# EAGLE library part ATSAM3A8C (library teensylu)
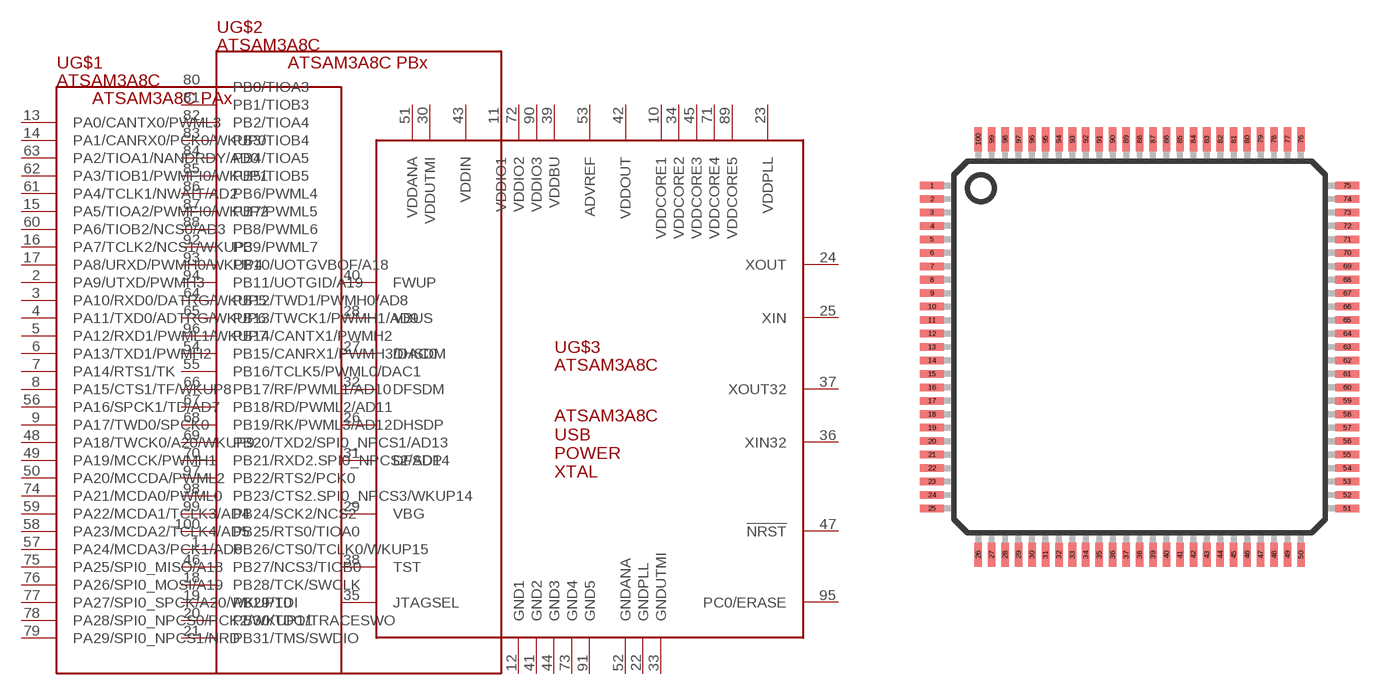
[diagram p9: symbol with the pads of LQFP100; footprint LQFP100]

Designator prefix U; gates G$1=ATSAM3A8C-PA G$2=ATSAM3A8C-PB G$3=ATSAM3A8C-POWER

## ATSAM3A8C-LQFP100 (MANUFACTURER: Atmel; MANUFACTURER_PART_NUMBER: ATSAM3A8C)  [LQFP100]
1  G$2:PB26/CTS0/TCLK0/WKUP15
2  G$1:PA9/UTXD/PWMH3
3  G$1:PA10/RXD0/DATRG/WKUP5
4  G$1:PA11/TXD0/ADTRG/WKUP6
5  G$1:PA12/RXD1/PWML1/WKUP7
6  G$1:PA13/TXD1/PWMH2
7  G$1:PA14/RTS1/TK
8  G$1:PA15/CTS1/TF/WKUP8
9  G$1:PA17/TWD0/SPCK0
10  G$3:VDDCORE1  in
11  G$3:VDDIO1  pwr
12  G$3:GND1  pwr
13  G$1:PA0/CANTX0/PWML3
14  G$1:PA1/CANRX0/PCK0/WKUP0
15  G$1:PA5/TIOA2/PWMFI0/WKUP2
16  G$1:PA7/TCLK2/NCS1/WKUP3
17  G$1:PA8/URXD/PWMH0/WKUP4
18  G$2:PB28/TCK/SWCLK
19  G$2:PB29/TDI
20  G$2:PB30/TDO/TRACESWO
21  G$2:PB31/TMS/SWDIO
22  G$3:GNDPLL  pwr
23  G$3:VDDPLL  in
24  G$3:XOUT  out
25  G$3:XIN  in
26  G$3:DHSDP
27  G$3:DHSDM
28  G$3:VBUS  pwr
29  G$3:VBG  pas
30  G$3:VDDUTMI  in
31  G$3:DFSDP  in
32  G$3:DFSDM  in
33  G$3:GNDUTMI  pwr
34  G$3:VDDCORE2  in
35  G$3:JTAGSEL  in
36  G$3:XIN32  out
37  G$3:XOUT32  out
38  G$3:TST  in
39  G$3:VDDBU  pwr
40  G$3:FWUP  in
41  G$3:GND2  pwr
42  G$3:VDDOUT  out
43  G$3:VDDIN  pwr
44  G$3:GND3  pwr
45  G$3:VDDCORE3  in
46  G$2:PB27/NCS3/TIOB0
47  G$3:!NRST
48  G$1:PA18/TWCK0/A20/WKUP9
49  G$1:PA19/MCCK/PWMH1
50  G$1:PA20/MCCDA/PWML2
51  G$3:VDDANA  pwr
52  G$3:GNDANA  pwr
53  G$3:ADVREF  pwr
54  G$2:PB15/CANRX1/PWMH3/DAC0
55  G$2:PB16/TCLK5/PWML0/DAC1
56  G$1:PA16/SPCK1/TD/AD7
57  G$1:PA24/MCDA3/PCK1/AD6
58  G$1:PA23/MCDA2/TCLK4/AD5
59  G$1:PA22/MCDA1/TCLK3/AD4
60  G$1:PA6/TIOB2/NCS0/AD3
61  G$1:PA4/TCLK1/NWAIT/AD2
62  G$1:PA3/TIOB1/PWMFI0/WKUP1
63  G$1:PA2/TIOA1/NANDRDY/AD0
64  G$2:PB12/TWD1/PWMH0/AD8
65  G$2:PB13/TWCK1/PWMH1/AD9
66  G$2:PB17/RF/PWML1/AD10
67  G$2:PB18/RD/PWML2/AD11
68  G$2:PB19/RK/PWML3/AD12
69  G$2:PB20/TXD2/SPI0_NPCS1/AD13
70  G$2:PB21/RXD2.SPI0_NPCS2/AD14
71  G$3:VDDCORE4  in
72  G$3:VDDIO2  pwr
73  G$3:GND4  pwr
74  G$1:PA21/MCDA0/PWML0
75  G$1:PA25/SPI0_MISO/A18
76  G$1:PA26/SPI0_MOSI/A19
77  G$1:PA27/SPI0_SPCK/A20/WKUP10
78  G$1:PA28/SPI0_NPCS0/PCK2/WKUP11
79  G$1:PA29/SPI0_NPCS1/NRD
80  G$2:PB0/TIOA3
81  G$2:PB1/TIOB3
82  G$2:PB2/TIOA4
83  G$2:PB3/TIOB4
84  G$2:PB4/TIOA5
85  G$2:PB5/TIOB5
86  G$2:PB6/PWML4
87  G$2:PB7/PWML5
88  G$2:PB8/PWML6
89  G$3:VDDCORE5  in
90  G$3:VDDIO3  pwr
91  G$3:GND5  pwr
92  G$2:PB9/PWML7
93  G$2:PB10/UOTGVBOF/A18
94  G$2:PB11/UOTGID/A19
95  G$3:PC0/ERASE
96  G$2:PB14/CANTX1/PWMH2
97  G$2:PB22/RTS2/PCK0
98  G$2:PB23/CTS2.SPI0_NPCS3/WKUP14
99  G$2:PB24/SCK2/NCS2
100  G$2:PB25/RTS0/TIOA0

## Footprint LQFP100 (pad centres in mm)
Low Profile Quad Flat Pack
smd 0.889 x 0.279: 1 -7.72,6; 2 -7.72,5.5; 3 -7.72,5; 4 -7.72,4.5; 5 -7.72,4; 6 -7.72,3.5; 7 -7.72,3; 8 -7.72,2.5; 9 -7.72,2; 10 -7.72,1.5; 11 -7.72,1; 12 -7.72,0.5; 13 -7.72,0; 14 -7.72,-0.5; 15 -7.72,-1; 16 -7.72,-1.5; 17 -7.72,-2; 18 -7.72,-2.5; 19 -7.72,-3; 20 -7.72,-3.5; 21 -7.72,-4; 22 -7.72,-4.5; 23 -7.72,-5; 24 -7.72,-5.5; 25 -7.72,-6; 51 7.72,-6; 52 7.72,-5.5; 53 7.72,-5; 54 7.72,-4.5; 55 7.72,-4; 56 7.72,-3.5; 57 7.72,-3; 58 7.72,-2.5; 59 7.72,-2; 60 7.72,-1.5; 61 7.72,-1; 62 7.72,-0.5; 63 7.72,0; 64 7.72,0.5; 65 7.72,1; 66 7.72,1.5; 67 7.72,2; 68 7.72,2.5; 69 7.72,3; 70 7.72,3.5; 71 7.72,4; 72 7.72,4.5; 73 7.72,5; 74 7.72,5.5; 75 7.72,6
smd 0.279 x 0.889: 26 -6,-7.72; 27 -5.5,-7.72; 28 -5,-7.72; 29 -4.5,-7.72; 30 -4,-7.72; 31 -3.5,-7.72; 32 -3,-7.72; 33 -2.5,-7.72; 34 -2,-7.72; 35 -1.5,-7.72; 36 -1,-7.72; 37 -0.5,-7.72; 38 0,-7.72; 39 0.5,-7.72; 40 1,-7.72; 41 1.5,-7.72; 42 2,-7.72; 43 2.5,-7.72; 44 3,-7.72; 45 3.5,-7.72; 46 4,-7.72; 47 4.5,-7.72; 48 5,-7.72; 49 5.5,-7.72; 50 6,-7.72; 76 6,7.72; 77 5.5,7.72; 78 5,7.72; 79 4.5,7.72; 80 4,7.72; 81 3.5,7.72; 82 3,7.72; 83 2.5,7.72; 84 2,7.72; 85 1.5,7.72; 86 1,7.72; 87 0.5,7.72; 88 0,7.72; 89 -0.5,7.72; 90 -1,7.72; 91 -1.5,7.72; 92 -2,7.72; 93 -2.5,7.72; 94 -3,7.72; 95 -3.5,7.72; 96 -4,7.72; 97 -4.5,7.72; 98 -5,7.72; 99 -5.5,7.72; 100 -6,7.72